# EAGLE library part KK-156-9 (library molexmod)
KK 156 HEADER Source: http://www.molex.com/pdm_docs/sd/026604100_sd.pdf
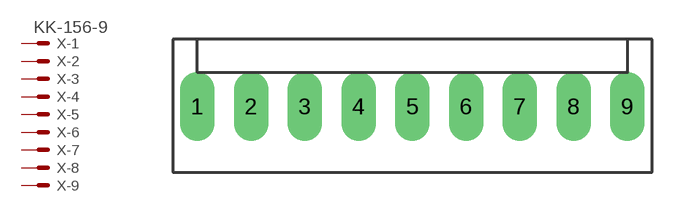
[diagram p170: symbol with the pads of KK-156-9; footprint KK-156-9]

Designator prefix X; gates -1=MV -2=M -3=M -4=M -5=M -6=M -7=M -8=M -9=M

## KK-156-9 (MF: MOLEX; OC_FARNELL: unknown; OC_NEWARK: unknown)  [KK-156-9]
1  -1:S  pas
2  -2:S  pas
3  -3:S  pas
4  -4:S  pas
5  -5:S  pas
6  -6:S  pas
7  -7:S  pas
8  -8:S  pas
9  -9:S  pas

## Footprint KK-156-9 (pad centres in mm)
KK® 396 Header, Vertical, Friction Lock, 9 Circuits, Tin (Sn) Plating Datasheet <http://www.molex.com/pdm_docs/sd/026604090_sd.pdf>
drill 1.7 pad 2.184 long: 1 -15.84,0; 2 -11.88,0; 3 -7.92,0; 4 -3.96,0; 5 0,0; 6 3.96,0; 7 7.92,0; 8 11.88,0; 9 15.84,0